# EAGLE library part SN74LVC3G14 (library act-global-nolan)
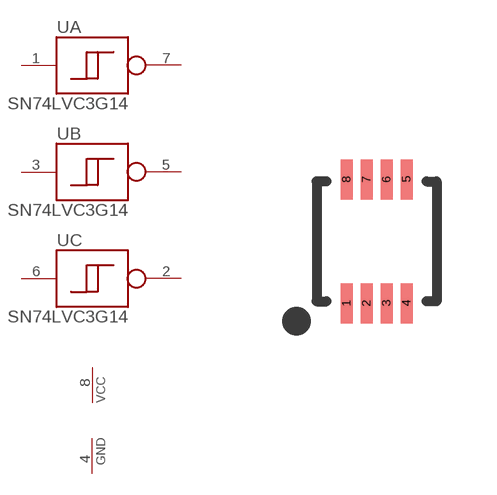
[diagram p41: symbol with the pads of VSSOP08; footprint VSSOP08]

Designator prefix -; gates A=INVERTER B=INVERTER C=INVERTER D=PWRN

## SN74LVC3G14  [VSSOP08]
1  A:A
2  C:Y
3  B:A
4  D:GND  pwr
5  B:Y
6  C:A
7  A:Y
8  D:VCC  pwr

## Footprint VSSOP08 (pad centres in mm)
smd 0.3 x 1: 1 -0.75,-1.55; 2 -0.25,-1.55; 3 0.25,-1.55; 4 0.75,-1.55; 5 0.75,1.55; 6 0.25,1.55; 7 -0.25,1.55; 8 -0.75,1.55